# EAGLE library part TB6612FNG (library RLEG-library)
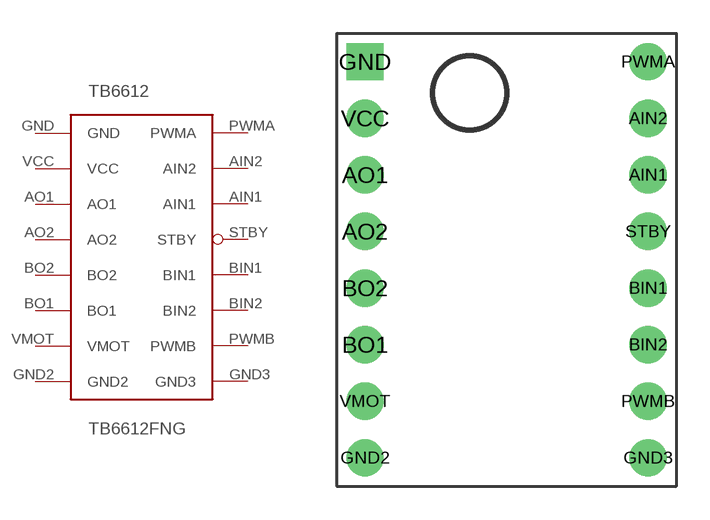
[diagram p0: symbol with the pads of TB6612FNG; footprint TB6612FNG]

Designator prefix TB6612

## TB6612FNG  [TB6612FNG]
AIN1  AIN1
AIN2  AIN2
AO1  AO1
AO2  AO2
BIN1  BIN1
BIN2  BIN2
BO1  BO1
BO2  BO2
GND  GND
GND2  GND2
GND3  GND3
PWMA  PWMA
PWMB  PWMB
STBY  STBY
VCC  VCC
VMOT  VMOT

## Footprint TB6612FNG (pad centres in mm)
drill 1.016 pad 1.676: AIN1 13.97,13.97; AIN2 13.97,16.51; AO1 1.27,13.97; AO2 1.27,11.43; BIN1 13.97,8.89; BIN2 13.97,6.35; BO1 1.27,6.35; BO2 1.27,8.89; GND2 1.27,1.27; GND3 13.97,1.27; PWMA 13.97,19.05; PWMB 13.97,3.81; STBY 13.97,11.43; VCC 1.27,16.51; VMOT 1.27,3.81
drill 1.016 pad 1.676 square: GND 1.27,19.05